# EAGLE library part LT1054 (library NMR-relaxometry)
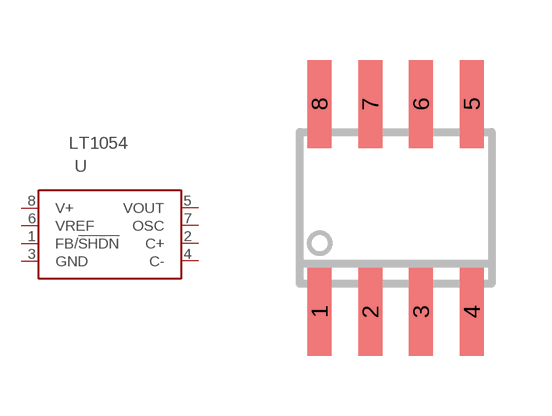
[diagram p8: symbol with the pads of SOIC-8; footprint SOIC-8]

Designator prefix -

## LT1054  [SOIC-8]
1  FB/!SHDN  in
2  C+  pas
3  GND  pwr
4  C-  pas
5  VOUT  pwr
6  VREF  in
7  OSC  pas
8  V+  pwr

## Footprint SOIC-8 (pad centres in mm)
smd 0.6 x 2.2: 1 -1.905,-2.6; 2 -0.635,-2.6; 3 0.635,-2.6; 4 1.905,-2.6; 5 1.905,2.6; 6 0.635,2.6; 7 -0.635,2.6; 8 -1.905,2.6